# Altium footprint library TS-1088-AR02016.PcbLib: 3 footprints
Each footprint in its own frame and in the unit in brackets; x right, y up, seen from the top. Pads: shape width x height; smd on the part's side, far side on the other; paste and mask are expansions set on the pad; w line width, h text height; cw(c..) or ccw(c..) is an arc to the next point about the centre after c.
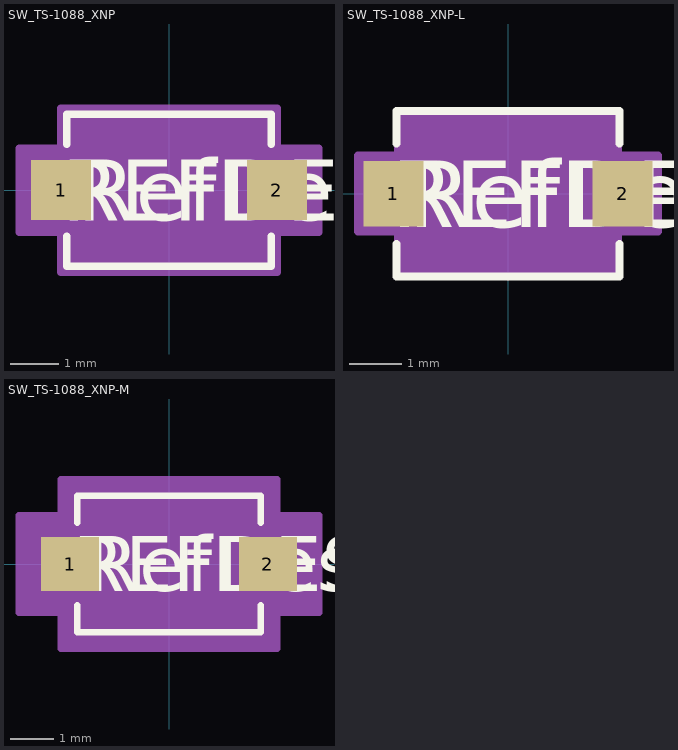
[diagram p0: the footprints below, top view; thin cyan lines are the x and y axes]

## SW_TS-1088_XNP [mil]
pads (2):
  rect 49x49 smd paste+0 mask+0: 1(-88,0) 2(88,0)
Top Overlay:
  lines w6: -83.5,-37.6 -83.5,-62 83.5,-62 83.5,-37.6 ; -83.5,37.6 -83.5,62 83.5,62 83.5,37.6
  text "RefDes" at -75,-25 h50
  text "REFDES" at -87.5,-25 h50
Mechanical 13:
  circle w0: c-63.5,0 r3
  lines w0: -12,57 ccw(c0,57) 12,57
  lines w1: -78.5,-57 78.5,-57 78.5,57 -78.5,57 -78.5,-57
  text "RefDes2" at -87.5,-25 h50
Mechanical 15:
  region: -88.5,-34.5 -122.5,-34.5 -122.5,34.5 -88.5,34.5 -88.5,67 88.5,67 88.5,34.5 122.5,34.5 122.5,-34.5 88.5,-34.5 88.5,-67 -88.5,-67
  lines w6: -122.5,-34.5 -122.5,34.5 -88.5,34.5 -88.5,67 88.5,67 88.5,34.5 122.5,34.5 122.5,-34.5 88.5,-34.5 88.5,-67 -88.5,-67 -88.5,-34.5 -122.5,-34.5
3D body "SW_TS-1088_XNP.step": height 79.09, standoff 0, extent -100.51,-57.01 100.51,57.01

## SW_TS-1088_XNP-L [mil]
pads (2):
  rect 45x49 smd paste+0 mask+0: 1(-86,0) 2(86,0)
Top Overlay:
  lines w6: -83.5,-37.6 -83.5,-62 83.5,-62 83.5,-37.6 ; -83.5,37.6 -83.5,62 83.5,62 83.5,37.6
  text "RefDes" at -75,-25 h50
  text "REFDES" at -87.5,-25 h50
Mechanical 13:
  circle w0: c-63.5,0 r3
  lines w0: -12,57 ccw(c0,57) 12,57
  lines w1: -78.5,-57 78.5,-57 78.5,57 -78.5,57 -78.5,-57
  text "RefDes2" at -87.5,-25 h50
Mechanical 15:
  region: -82.5,-28.5 -112.5,-28.5 -112.5,28.5 -82.5,28.5 -82.5,61 82.5,61 82.5,28.5 112.5,28.5 112.5,-28.5 82.5,-28.5 82.5,-61 -82.5,-61
  lines w6: -112.5,-28.5 -112.5,28.5 -82.5,28.5 -82.5,61 82.5,61 82.5,28.5 112.5,28.5 112.5,-28.5 82.5,-28.5 82.5,-61 -82.5,-61 -82.5,-28.5 -112.5,-28.5
3D body "SW_TS-1088_XNP.step": height 79.09, standoff 0, extent -100.51,-57.01 100.51,57.01

## SW_TS-1088_XNP-M [mil]
pads (2):
  rect 53x49 smd paste+0 mask+0: 1(-90,0) 2(90,0)
Top Overlay:
  lines w6: -83.5,-37.6 -83.5,-62 83.5,-62 83.5,-37.6 ; -83.5,37.6 -83.5,62 83.5,62 83.5,37.6
  text "RefDes" at -75,-25 h50
  text "REFDES" at -87.5,-25 h50
Mechanical 13:
  circle w0: c-63.5,0 r3
  lines w0: -12,57 ccw(c0,57) 12,57
  lines w1: -78.5,-57 78.5,-57 78.5,57 -78.5,57 -78.5,-57
  text "RefDes2" at -87.5,-25 h50
Mechanical 15:
  region: -98.5,-44.5 -136.5,-44.5 -136.5,44.5 -98.5,44.5 -98.5,77 98.5,77 98.5,44.5 136.5,44.5 136.5,-44.5 98.5,-44.5 98.5,-77 -98.5,-77
  lines w6: -136.5,-44.5 -136.5,44.5 -98.5,44.5 -98.5,77 98.5,77 98.5,44.5 136.5,44.5 136.5,-44.5 98.5,-44.5 98.5,-77 -98.5,-77 -98.5,-44.5 -136.5,-44.5
3D body "SW_TS-1088_XNP.step": height 79.09, standoff 0, extent -100.51,-57.01 100.51,57.01